# Altium footprint library transist_footp.PcbLib: 40 footprints (part 1 of 3)
Each footprint in its own frame and in the unit in brackets; x right, y up, seen from the top. Pads: shape width x height; smd on the part's side, far side on the other; paste and mask are expansions set on the pad; w line width, h text height; cw(c..) or ccw(c..) is an arc to the next point about the centre after c.
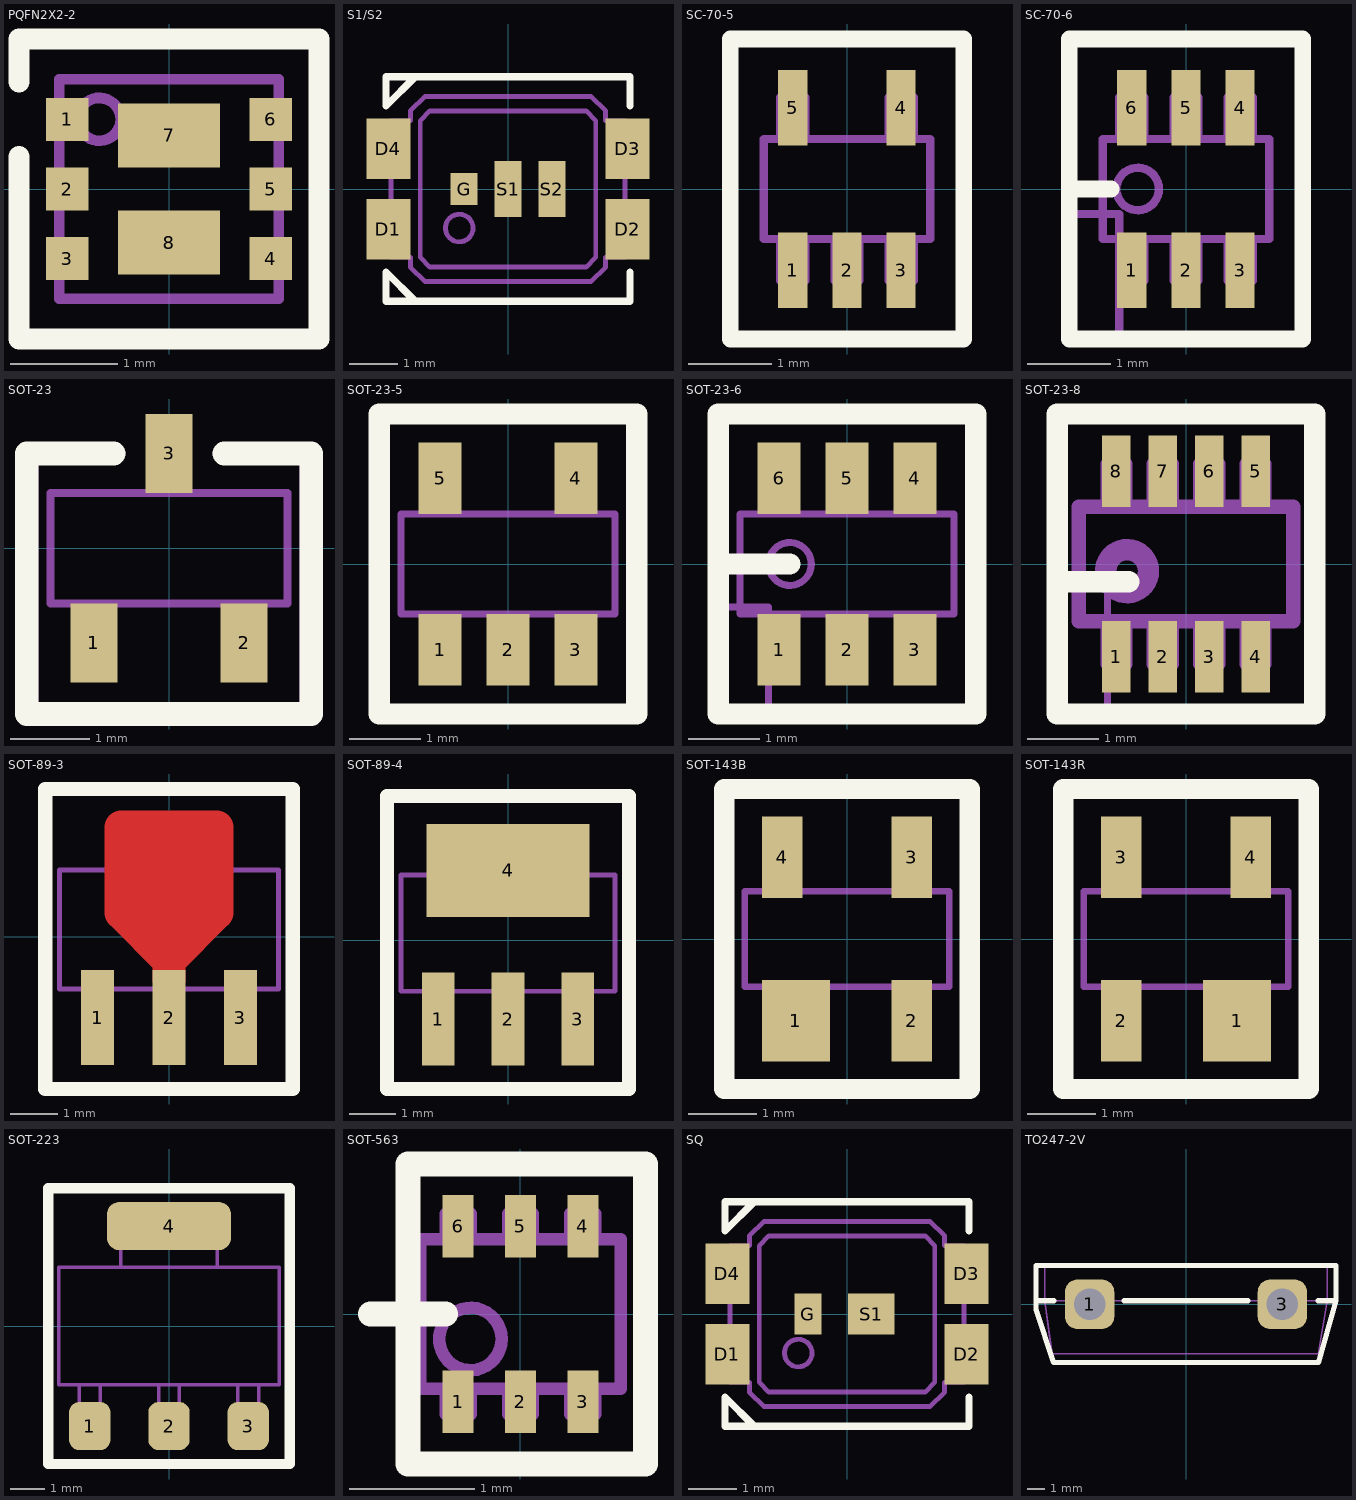
[diagram p0: the footprints below, top view; thin cyan lines are the x and y axes]

## PQFN2X2-2 [mm]
height 0.8
pads (8):
  rect 0.4x0.4 smd: 1(-0.95,0.65) 2(-0.95,0) 3(-0.95,-0.65) 4(0.95,-0.65) 5(0.95,0) 6(0.95,0.65)
  rect 0.95x0.6 smd: 7(0,0.5) 8(0,-0.5)
Top Overlay:
  lines w0.2: -1.4,0.3 -1.4,-1.4 1.4,-1.4 1.4,1.4 -1.4,1.4 -1.4,1
Mechanical 1:
  circle w0.1: c-0.65,0.65 r0.2
  lines w0.1: -1.025,-1.025 -1.025,1.025 1.025,1.025 1.025,-1.025 -1.025,-1.025
3D body: height 0.3, standoff 0, extent 1,-0.8 1.05,-0.5
3D body: height 0.3, standoff 0, extent 1,-0.15 1.05,0.15
3D body: height 0.3, standoff 0, extent 1,0.5 1.05,0.8
3D body: height 0.3, standoff 0, extent -1.05,0.5 -1,0.8
3D body: height 0.3, standoff 0, extent -1.05,-0.15 -1,0.15
3D body: height 0.3, standoff 0, extent -1.05,-0.8 -1,-0.5
3D body: height 0.8, standoff 0, extent -1.025,-1.025 1.025,1.025

## S1/S2 [mm]
height 0.7
pads (7):
  rect 0.9x1.25 smd: D1(-2.45,-0.825) D2(2.45,-0.825) D3(2.45,0.825) D4(-2.45,0.825)
  rect 0.55x0.65 smd: G(-0.9,0)
  rect 0.55x1.15 smd: S1(0,0) S2(0.9,0)
Top Overlay:
  lines w0.15: -1.9,-2.3 -2.5,-1.7 -2.5,-2.3 2.5,-2.3 2.5,-1.7 ; -1.9,2.3 -2.5,1.7 -2.5,2.3 2.5,2.3 2.5,1.7
Mechanical 1:
  circle w0.1: c-1,-0.8 r0.283
  lines w0.1: -2.4,-1.4 -2.4,1.4 -2,1.4 -2,1.6 -1.7,1.9 1.7,1.9 2,1.6 2,1.4 2.4,1.4 2.4,-1.4 2,-1.4 2,-1.6 1.7,-1.9 -1.7,-1.9 -2,-1.6 -2,-1.4 -2.4,-1.4 ; -1.8,-1.4 -1.6,-1.6 1.6,-1.6 1.8,-1.4 1.8,1.4 1.6,1.6 -1.6,1.6 -1.8,1.4 -1.8,-1.4
3D body: height 0.3, standoff 0.1, extent -2.4,-1.9 2.4,1.9
3D body: height 0.7, standoff 0.2, extent -1.8,-1.6 1.8,1.6

## SC-70-5 [mm] "0.65mm pitch"
height 1.1
pads (5):
  rect 0.35x0.9 smd: 1(-0.65,-0.975) 2(0,-0.975) 3(0.65,-0.975) 4(0.65,0.975) 5(-0.65,0.975)
Top Overlay:
  lines w0.2: -1.4,-1.8 -1.4,1.8 1.4,1.8 1.4,-1.8 -1.4,-1.8
Mechanical 1:
  lines w0.1: -0.8,-0.6 -0.8,-1.1 -0.5,-1.1 -0.5,-0.6 ; -0.8,0.6 -0.8,1.1 -0.5,1.1 -0.5,0.6 ; -0.15,-0.6 -0.15,-1.1 0.15,-1.1 0.15,-0.6 ; 0.5,-0.6 0.5,-1.1 0.8,-1.1 0.8,-0.6 ; 0.5,0.6 0.5,1.1 0.8,1.1 0.8,0.6 ; -1,-0.6 1,-0.6 1,0.6 -1,0.6 -1,-0.6
Mechanical 5:
  lines w0.1: -1.4,-1.8 -1.4,1.8 1.4,1.8 1.4,-1.8 -1.4,-1.8
  text ".Designator" at 1,-1.5 h1.5
Mechanical 6:
  lines w0.1: -1.4,-1.8 1.4,-1.8 1.4,1.8 -1.4,1.8 -1.4,-1.8
  text ".Comment" at 1,-1.5 h1.5
3D body: height 0.65, standoff 0, extent 0.55,0.1 0.75,1.1
3D body: height 0.65, standoff 0, extent -0.75,0.1 -0.55,1.1
3D body: height 0.65, standoff 0, extent 0.55,-1.1 0.75,-0.1
3D body: height 0.65, standoff 0, extent -0.1,-1.1 0.1,-0.1
3D body: height 0.65, standoff 0, extent -0.75,-1.1 -0.55,-0.1
3D body: height 1.1, standoff 0.1, extent -1,-0.5 1,0.5

## SC-70-6 [mm] "0.65mm pitch"
height 1.1
pads (6):
  rect 0.35x0.9 smd: 1(-0.65,-0.975) 2(0,-0.975) 3(0.65,-0.975) 4(0.65,0.975) 5(0,0.975) 6(-0.65,0.975)
Top Overlay:
  lines w0.2: -1.4,0 -0.9,0 ; -1.4,-1.8 1.4,-1.8 1.4,1.8 -1.4,1.8 -1.4,-1.8
Mechanical 1:
  circle w0.1: c-0.58,0 r0.255
  lines w0.1: -0.8,-0.6 -0.8,-1.1 -0.5,-1.1 -0.5,-0.6 ; -0.8,0.6 -0.8,1.1 -0.5,1.1 -0.5,0.6 ; -0.15,-0.6 -0.15,-1.1 0.15,-1.1 0.15,-0.6 ; -0.15,0.6 -0.15,1.1 0.15,1.1 0.15,0.6 ; 0.5,-0.6 0.5,-1.1 0.8,-1.1 0.8,-0.6 ; 0.5,0.6 0.5,1.1 0.8,1.1 0.8,0.6 ; -1,-0.6 -1,0.6 1,0.6 1,-0.6 -1,-0.6
Mechanical 5:
  lines w0.1: -1.4,-0.3 -0.8,-0.3 -0.8,-1.8 ; -1.4,-1.8 1.4,-1.8 1.4,1.8 -1.4,1.8 -1.4,-1.8
  text ".Designator" at 1,-1.5 h1.5
Mechanical 6:
  lines w0.1: -1.4,-0.3 -0.8,-0.3 -0.8,-1.8 ; -1.4,-1.8 -1.4,1.8 1.4,1.8 1.4,-1.8 -1.4,-1.8
  text ".Comment" at 1,-1.5 h1.5
3D body: height 1.1, standoff 0.2, extent -1,-0.6 1,0.6
3D body: height 0.65, standoff 0, extent -0.75,-1.1 -0.55,-0.1
3D body: height 0.65, standoff 0, extent -0.1,-1.1 0.1,-0.1
3D body: height 0.65, standoff 0, extent 0.55,-1.1 0.75,-0.1
3D body: height 0.65, standoff 0, extent -0.75,0.1 -0.55,1.1
3D body: height 0.65, standoff 0, extent -0.1,0.1 0.1,1.1
3D body: height 0.65, standoff 0, extent 0.55,0.1 0.75,1.1

## SOT-23 [mm] "0.95mm pitch"
height 1.2
pads (3):
  rect 0.6x1 smd: 1(-0.95,-1.2) 2(0.95,-1.2) 3(0,1.2)
Top Overlay:
  lines w0.3: -0.7,1.2 -1.8,1.2 -1.8,-2.1 1.8,-2.1 1.8,1.2 0.7,1.2
Mechanical 1:
  lines w0.1: -1.15,-0.7 -1.15,-1.2 -0.75,-1.2 -0.75,-0.7 ; -0.2,0.7 -0.2,1.2 0.2,1.2 0.2,0.7 ; 0.75,-0.7 0.75,-1.2 1.15,-1.2 1.15,-0.7 ; -1.5,-0.7 -1.5,0.7 1.5,0.7 1.5,-0.7 -1.5,-0.7
Mechanical 5:
  lines w0.1: -0.6,1.2 -1.7,1.2 -1.7,-2.1 1.7,-2.1 1.7,1.2 0.6,1.2
  text ".Designator" at -1.3,-1.1 h1.5
Mechanical 6:
  lines w0.1: -0.6,1.2 -1.7,1.2 -1.7,-2.1 1.7,-2.1 1.7,1.2 0.6,1.2
  text ".Comment" at -1.3,-1.1 h1.5
3D body: height 0.65, standoff 0, extent -0.2,0.3 0.2,1.3
3D body: height 1.2, standoff 0.2, extent -1.5,-0.7 1.5,0.7
3D body: height 0.65, standoff 0, extent -1.15,-1.3 -0.75,-0.3
3D body: height 0.65, standoff 0, extent 0.75,-1.3 1.15,-0.3

## SOT-23-5 [mm] "0.95mm pitch"
height 1.2
pads (5):
  rect 0.6x1 smd: 1(-0.95,-1.2) 2(0,-1.2) 3(0.95,-1.2) 4(0.95,1.2) 5(-0.95,1.2)
Top Overlay:
  lines w0.3: -1.8,-2.1 1.8,-2.1 1.8,2.1 -1.8,2.1 -1.8,-2.1
Mechanical 1:
  lines w0.1: -1.15,-0.7 -1.15,-1.2 -0.75,-1.2 -0.75,-0.7 ; -1.15,0.7 -1.15,1.2 -0.75,1.2 -0.75,0.7 ; -0.2,-0.7 -0.2,-1.2 0.2,-1.2 0.2,-0.7 ; 0.75,-0.7 0.75,-1.2 1.15,-1.2 1.15,-0.7 ; 0.75,0.7 0.75,1.2 1.15,1.2 1.15,0.7 ; -1.5,-0.7 1.5,-0.7 1.5,0.7 -1.5,0.7 -1.5,-0.7
Mechanical 5:
  lines w0.1: -1.7,-2.1 1.7,-2.1 1.7,2.1 -1.7,2.1 -1.7,-2.1
  text ".Designator" at 0.7,-1.8 h1.5
Mechanical 6:
  lines w0.1: -1.7,-2.1 -1.7,2.1 1.7,2.1 1.7,-2.1 -1.7,-2.1
  text ".Comment" at 0.7,-1.8 h1.5
3D body: height 0.65, standoff 0, extent -1.15,0.3 -0.75,1.3
3D body: height 0.65, standoff 0, extent 0.75,0.3 1.15,1.3
3D body: height 1.2, standoff 0.2, extent -1.5,-0.7 1.5,0.7
3D body: height 0.65, standoff 0, extent -1.15,-1.3 -0.75,-0.3
3D body: height 0.65, standoff 0, extent 0.75,-1.3 1.15,-0.3
3D body: height 0.65, standoff 0, extent -0.2,-1.3 0.2,-0.3

## SOT-23-6 [mm] "0.95mm pitch"
height 1.2
pads (6):
  rect 0.6x1 smd: 1(-0.95,-1.2) 2(0,-1.2) 3(0.95,-1.2) 4(0.95,1.2) 5(0,1.2) 6(-0.95,1.2)
Top Overlay:
  lines w0.3: -1.8,0 -0.8,0 ; -1.8,-2.1 -1.8,2.1 1.8,2.1 1.8,-2.1 -1.8,-2.1
Mechanical 1:
  circle w0.1: c-0.8,0 r0.3
  lines w0.1: -1.15,-0.7 -1.15,-1.2 -0.75,-1.2 -0.75,-0.7 ; -1.15,0.7 -1.15,1.2 -0.75,1.2 -0.75,0.7 ; -0.2,-0.7 -0.2,-1.2 0.2,-1.2 0.2,-0.7 ; -0.2,0.7 -0.2,1.2 0.2,1.2 0.2,0.7 ; 0.75,-0.7 0.75,-1.2 1.15,-1.2 1.15,-0.7 ; 0.75,0.7 0.75,1.2 1.15,1.2 1.15,0.7 ; -1.5,-0.7 -1.5,0.7 1.5,0.7 1.5,-0.7 -1.5,-0.7
Mechanical 5:
  lines w0.1: -1.7,-0.6 -1.1,-0.6 -1.1,-2.1 ; -1.7,-2.1 1.7,-2.1 1.7,2.1 -1.7,2.1 -1.7,-2.1
  text ".Designator" at 0.7,-1.8 h1.5
Mechanical 6:
  lines w0.1: -1.7,-0.6 -1.1,-0.6 -1.1,-2.1 ; -1.7,-2.1 -1.7,2.1 1.7,2.1 1.7,-2.1 -1.7,-2.1
  text ".Comment" at 0.7,-1.8 h1.5
3D body: height 1.2, standoff 0.2, extent -1.5,-0.7 1.5,0.7
3D body: height 0.65, standoff 0, extent -0.2,0.3 0.2,1.3
3D body: height 0.65, standoff 0, extent -1.15,0.3 -0.75,1.3
3D body: height 0.65, standoff 0, extent 0.75,0.3 1.15,1.3
3D body: height 0.65, standoff 0, extent -1.15,-1.3 -0.75,-0.3
3D body: height 0.65, standoff 0, extent 0.75,-1.3 1.15,-0.3
3D body: height 0.65, standoff 0, extent -0.2,-1.3 0.2,-0.3

## SOT-23-8 [mm] "0.65mm pitch"
height 1.2
pads (8):
  rect 0.4x1 smd: 1(-0.975,-1.3) 2(-0.325,-1.3) 3(0.325,-1.3) 4(0.975,-1.3) 5(0.975,1.3) 6(0.325,1.3) 7(-0.325,1.3) 8(-0.975,1.3)
Top Overlay:
  lines w0.3: -1.8,-0.25 -0.8,-0.25 ; -1.8,-2.1 -1.8,2.1 1.8,2.1 1.8,-2.1 -1.8,-2.1
Mechanical 1:
  circle w0.3: c-0.825,-0.1 r0.3
  lines w0.2: -1.1,-0.8 -1.1,-1.4 -0.85,-1.4 -0.85,-0.8 ; -1.1,0.8 -1.1,1.4 -0.85,1.4 -0.85,0.8 ; -0.45,-0.8 -0.45,-1.4 -0.2,-1.4 -0.2,-0.8 ; -0.45,0.8 -0.45,1.4 -0.2,1.4 -0.2,0.8 ; 0.2,-0.8 0.2,-1.4 0.45,-1.4 0.45,-0.8 ; 0.2,0.8 0.2,1.4 0.45,1.4 0.45,0.8 ; 0.85,-0.8 0.85,-1.4 1.1,-1.4 1.1,-0.8 ; 0.85,0.8 0.85,1.4 1.1,1.4 1.1,0.8 ; -1.5,-0.8 1.5,-0.8 1.5,0.8 -1.5,0.8 -1.5,-0.8
Mechanical 5:
  lines w0.1: -1.7,-0.3 -1.1,-0.3 -1.1,-2.1 ; -1.7,-2.1 1.7,-2.1 1.7,2.1 -1.7,2.1 -1.7,-2.1
  text ".Designator" at 0.7,-1.8 h1.5
Mechanical 6:
  lines w0.1: -1.7,-0.3 -1.1,-0.3 -1.1,-2.1 ; -1.7,-2.1 -1.7,2.1 1.7,2.1 1.7,-2.1 -1.7,-2.1
  text ".Comment" at 0.7,-1.8 h1.5
3D body: height 0.65, standoff 0, extent -0.525,0.3 -0.125,1.3
3D body: height 0.65, standoff 0, extent -1.15,0.3 -0.75,1.3
3D body: height 0.65, standoff 0, extent 0.75,0.3 1.15,1.3
3D body: height 1.2, standoff 0.2, extent -1.5,-0.7 1.5,0.7
3D body: height 0.65, standoff 0, extent -1.15,-1.3 -0.75,-0.3
3D body: height 0.65, standoff 0, extent 0.75,-1.3 1.15,-0.3
3D body: height 0.65, standoff 0, extent -0.525,-1.3 -0.125,-0.3
3D body: height 0.65, standoff 0, extent 0.125,-1.3 0.525,-0.3
3D body: height 0.65, standoff 0, extent 0.125,0.3 0.525,1.3

## SOT-89-3 [mm]
height 1.5
pads (3):
  rect 0.7x2 smd: 1(-1.5,-1.7) 2(0,-1.7) 3(1.5,-1.7)
Top Layer:
  lines w0.7: -1,1 1,1 ; -1,1.05 1,1.05 ; -1,1.1 1,1.1 ; -1,1.65 1,1.65 ; -1,1.7 1,1.7 ; -0.5,0.1 0.5,0.1 ; 0,-0.9 0,-0.3 ; -1,0.5 0,-0.5 1,0.5 ; -1,0.5 1,0.5 ; -1,0.5 -1,2.3 1,2.3 1,0.5
Top Overlay:
  lines w0.3: -2.6,-3.2 -2.6,3.1 2.6,3.1 2.6,0.6 2.6,-3.2 -2.6,-3.2
Top Paste:
  lines w0.7: -1,1.8 1,1.8 ; -1,1.3 -1,2.3 1,2.3 1,1.3 -1,1.3
Top Solder:
  lines w1: -1,1 1,1 ; -1,1.05 1,1.05 ; -1,1.1 1,1.1 ; -1,1.65 1,1.65 ; -1,1.7 1,1.7 ; -0.9,1.4 -0.9,1.6 -0.6,1.9 0.6,1.9 0.9,1.6 0.9,1.4 ; -0.5,0.1 0.5,0.1 ; 0,-0.9 0,-0.3 ; -1,0.5 0,-0.5 1,0.5 ; -1,0.5 1,0.5 ; -1,0.5 -1,2.3 1,2.3 1,0.5
Mechanical 1:
  lines w0.1: -1.7,-1.1 -1.7,-2.1 -1.3,-2.1 -1.3,-1.1 ; -0.9,1.4 -0.9,1.6 -0.6,1.9 0.6,1.9 0.9,1.6 0.9,1.4 ; -0.2,-1.1 -0.2,-2.1 0.2,-2.1 0.2,-1.1 ; 1.3,-1.1 1.3,-2.1 1.7,-2.1 1.7,-1.1 ; -2.3,-1.1 -2.3,1.4 2.3,1.4 2.3,-1.1 -2.3,-1.1
3D body: height 1.5, standoff 0, extent -2.3,-1.1 2.3,1.4
3D body: height 0.4, standoff 0, extent -1.7,-2.1 -1.3,-1
3D body: height 0.4, standoff 0, extent -0.9,1.3 0.9,1.9
3D body: height 0.4, standoff 0, extent -0.2,-2.1 0.2,-1
3D body: height 0.4, standoff 0, extent 1.3,-2.1 1.7,-1

## SOT-89-4 [mm]
height 1.5
pads (4):
  rect 0.7x2 smd: 1(-1.5,-1.7) 2(0,-1.7) 3(1.5,-1.7)
  rect 3.5x2 smd paste-0.5: 4(0,1.5)
Top Overlay:
  lines w0.3: -2.6,-3.2 -2.6,3.1 2.6,3.1 2.6,-3.2 -2.6,-3.2
Mechanical 1:
  lines w0.1: -1.7,-1.1 -1.7,-2.1 -1.3,-2.1 -1.3,-1.1 ; -0.9,1.4 -0.9,1.6 -0.6,1.9 0.6,1.9 0.9,1.6 0.9,1.4 ; -0.2,-1.1 -0.2,-2.1 0.2,-2.1 0.2,-1.1 ; 1.3,-1.1 1.3,-2.1 1.7,-2.1 1.7,-1.1 ; -2.3,-1.1 2.3,-1.1 2.3,1.4 -2.3,1.4 -2.3,-1.1
3D body: height 0.4, standoff 0, extent 1.3,-2.1 1.7,-1
3D body: height 0.4, standoff 0, extent -0.2,-2.1 0.2,-1
3D body: height 0.4, standoff 0, extent -0.9,1.3 0.9,1.9
3D body: height 0.4, standoff 0, extent -1.7,-2.1 -1.3,-1
3D body: height 1.5, standoff 0, extent -2.3,-1.1 2.3,1.4

## SOT-143B [mm]
height 1.2
pads (4):
  rect 1x1.2 smd: 1(-0.75,-1.2)
  rect 0.6x1.2 smd: 2(0.95,-1.2) 3(0.95,1.2) 4(-0.95,1.2)
Top Overlay:
  lines w0.3: -1.8,-2.2 1.8,-2.2 1.8,2.2 -1.8,2.2 -1.8,-2.2
Mechanical 1:
  lines w0.1: -1.15,-0.7 -1.15,-1.2 -0.35,-1.2 -0.35,-0.7 ; -1.15,0.7 -1.15,1.2 -0.75,1.2 -0.75,0.7 ; 0.75,-0.7 0.75,-1.2 1.15,-1.2 1.15,-0.7 ; 0.75,0.7 0.75,1.2 1.15,1.2 1.15,0.7 ; -1.5,-0.7 1.5,-0.7 1.5,0.7 -1.5,0.7 -1.5,-0.7
3D body: height 0.65, standoff 0, extent -1.15,-1.3 -0.35,-0.3
3D body: height 0.65, standoff 0, extent -1.15,0.3 -0.75,1.3
3D body: height 0.65, standoff 0, extent 0.75,0.3 1.15,1.3
3D body: height 1.2, standoff 0.2, extent -1.5,-0.7 1.5,0.7
3D body: height 0.65, standoff 0, extent 0.75,-1.3 1.15,-0.3

## SOT-143R [mm]
height 1.2
pads (4):
  rect 1x1.2 smd: 1(0.75,-1.2)
  rect 0.6x1.2 smd: 2(-0.95,-1.2) 3(-0.95,1.2) 4(0.95,1.2)
Top Overlay:
  lines w0.3: -1.8,-2.2 1.8,-2.2 1.8,2.2 -1.8,2.2 -1.8,-2.2
Mechanical 1:
  lines w0.1: -1.15,-0.7 -1.15,-1.2 -0.75,-1.2 -0.75,-0.7 ; -1.15,0.7 -1.15,1.2 -0.75,1.2 -0.75,0.7 ; 0.35,-0.7 0.35,-1.2 1.15,-1.2 1.15,-0.7 ; 0.75,0.7 0.75,1.2 1.15,1.2 1.15,0.7 ; -1.5,-0.7 1.5,-0.7 1.5,0.7 -1.5,0.7 -1.5,-0.7
3D body: height 0.65, standoff 0, extent 0.35,-1.3 1.15,-0.3
3D body: height 0.65, standoff 0, extent 0.75,0.3 1.15,1.3
3D body: height 0.65, standoff 0, extent -1.15,0.3 -0.75,1.3
3D body: height 1.2, standoff 0.2, extent -1.5,-0.7 1.5,0.7
3D body: height 0.65, standoff 0, extent -1.15,-1.3 -0.75,-0.3

## SOT-223 [mm]
pads (4):
  rrect50% 1.2x1.4 smd: 1(-2.3,-2.9) 2(0,-2.9) 3(2.3,-2.9)
  rrect50% 3.6x1.4 smd: 4(0,2.9)
Top Overlay:
  lines w0.3: -3.5,-4 -3.5,4 3.5,4 3.5,-4 -3.5,-4
Mechanical 1:
  lines w0.1: -2.6,-1.7 -2.6,-3.3 -2,-3.3 -2,-1.7 ; -1.4,1.7 -1.4,3.3 1.4,3.3 1.4,1.7 ; -0.3,-1.7 -0.3,-3.3 0.3,-3.3 0.3,-1.7 ; 2,-1.7 2,-3.3 2.6,-3.3 2.6,-1.7 ; -3.2,-1.7 -3.2,1.7 3.2,1.7 3.2,-1.7 -3.2,-1.7
3D body: height 0.3, standoff 0, extent -1.4,1.7 1.4,3.3
3D body: height 1.8, standoff 0.2, extent -3.2,-1.7 3.2,1.7
3D body: height 1.1, standoff 0, extent 2.05,-3.4 2.55,-0.9
3D body: height 1.1, standoff 0, extent -0.25,-3.4 0.25,-0.9
3D body: height 1.1, standoff 0, extent -2.55,-3.4 -2.05,-0.9

## SOT-563 [mm] "0,5mm pitch"
height 0.6
pads (6):
  rect 0.25x0.5 smd: 1(-0.5,-0.7) 2(0,-0.7) 3(0.5,-0.7) 4(0.5,0.7) 5(0,0.7) 6(-0.5,0.7)
Top Overlay:
  lines w0.2: -1.2,0 -0.6,0 ; -0.9,-1.2 1,-1.2 1,1.2 -0.9,1.2 -0.9,-1.2
Mechanical 1:
  circle w0.1: c-0.4,-0.2 r0.25
  lines w0.1: -0.6,-0.6 -0.6,-0.8 -0.4,-0.8 -0.4,-0.6 ; -0.6,0.6 -0.6,0.8 -0.4,0.8 -0.4,0.6 ; -0.1,-0.6 -0.1,-0.8 0.1,-0.8 0.1,-0.6 ; -0.1,0.6 -0.1,0.8 0.1,0.8 0.1,0.6 ; 0.4,-0.6 0.4,-0.8 0.6,-0.8 0.6,-0.6 ; 0.4,0.6 0.4,0.8 0.6,0.8 0.6,0.6 ; -0.8,-0.6 -0.8,0.6 0.8,0.6 0.8,-0.6 -0.8,-0.6
3D body: height 0.12, standoff 0, extent 0.4,-0.8 0.6,-0.6
3D body: height 0.12, standoff 0, extent -0.1,-0.8 0.1,-0.6
3D body: height 0.12, standoff 0, extent -0.6,-0.8 -0.4,-0.6
3D body: height 0.6, standoff 0, extent -0.8,-0.6 0.8,0.6
3D body: height 0.12, standoff 0, extent -0.6,0.6 -0.4,0.8
3D body: height 0.12, standoff 0, extent -0.1,0.6 0.1,0.8
3D body: height 0.12, standoff 0, extent 0.4,0.6 0.6,0.8

## SQ [mm]
height 0.7
pads (6):
  rect 0.9x1.25 smd: D1(-2.45,-0.825) D2(2.45,-0.825) D3(2.45,0.825) D4(-2.45,0.825)
  rect 0.55x0.85 smd: G(-0.8,0)
  rect 0.95x0.85 smd: S1(0.5,0)
Top Overlay:
  lines w0.15: -1.9,-2.3 -2.5,-1.7 -2.5,-2.3 2.5,-2.3 2.5,-1.7 ; -1.9,2.3 -2.5,1.7 -2.5,2.3 2.5,2.3 2.5,1.7
Mechanical 1:
  circle w0.1: c-1,-0.8 r0.283
  lines w0.1: -2.4,-1.4 -2,-1.4 -2,-1.6 -1.7,-1.9 1.7,-1.9 2,-1.6 2,-1.4 2.4,-1.4 2.4,1.4 2,1.4 2,1.6 1.7,1.9 -1.7,1.9 -2,1.6 -2,1.4 -2.4,1.4 -2.4,-1.4 ; -1.8,-1.4 -1.8,1.4 -1.6,1.6 1.6,1.6 1.8,1.4 1.8,-1.4 1.6,-1.6 -1.6,-1.6 -1.8,-1.4
3D body: height 0.7, standoff 0.2, extent -1.8,-1.6 1.8,1.6
3D body: height 0.3, standoff 0.1, extent -2.4,-1.9 2.4,1.9

## TO247-2V [mm]
height 28
pads (2):
  rrect50% 2.8x2.8 hole 1.8: 1(-5.46,0) 3(5.46,0)
Top Overlay:
  lines w0.3: -8.5,0.2 -7.5,0.2 ; -3.5,0.2 3.5,0.2 ; 7.5,0.2 8.5,0.2 ; 8.5,0.2 7.5,-3.3 -7.5,-3.3 -8.5,-0.3 -8.5,2.2 8.5,2.2 8.5,0.2
Mechanical 1:
  lines w0.1: -8,0.2 8,0.2 ; -8,0.2 -8,2.2 8,2.2 8,0.2 ; -8,0.2 -7.6,-2.8 7.5,-2.8 8,0.2
3D body: height 28, standoff 7, extent -8,0.5 8,2.2
3D body: height 28, standoff 7, extent -8,-2.8 8,0.5
3D body: height 12, standoff -9, extent -6.1,-0.3 -4.9,0.3
3D body: height 12, standoff -9, extent 4.9,-0.3 6.1,0.3